# EAGLE library part JST_GH_SM06B-GHS-TB (library Sightline)
JST SM06B-GHS-TB JST Type GH 1.25mm side-entry smt 6-pin connector Specifications Manufacturer: JST Manufacturer Part Number: SM06B-GHS-TB Body Size(mm): 10.75 X 4.25 JST TYPE GH DATASHEET <http://www.jst-mfg.com/product/pdf/eng/eGH.pdf> Created by: Kimball S. Davis 5 February 2019 Version 001
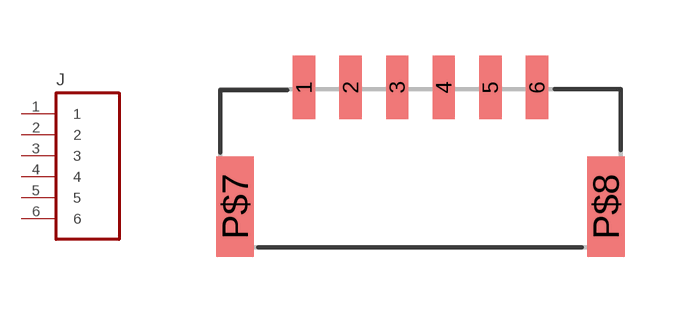
[diagram p3: symbol with the pads of JST_SM06B-GHS-TB; footprint JST_SM06B-GHS-TB]

Designator prefix J

## JST_GH_SM06B-GHS-TB (DESCRIPTION: 1.25 MM SIDE-ENTRY 6-PIN SMT CONNECTOR; MANF: JST; MANF#: SM06B-GHS-TB)  [JST_SM06B-GHS-TB]
1  1
2  2
3  3
4  4
5  5
6  6

## Footprint JST_SM06B-GHS-TB (pad centres in mm)
smd 0.6 x 1.7: 1 1.85,3.2; 2 3.1,3.2; 3 4.35,3.2; 4 5.6,3.2; 5 6.85,3.2; 6 8.1,3.2
smd 1 x 2.7: P$7 0,0; P$8 9.95,0